# Altium schematic symbol library Res_BI_Technologies_P0915N-FC15BR100K_eec.SchLib: 1 symbol
Pins are listed as number, name and electrical type; pins without a type are passive.

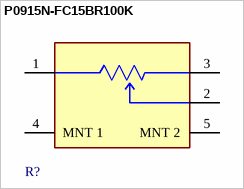
[diagram p0: symbol P0915N-FC15BR100K]

## P0915N-FC15BR100K
designator R?  (value not drawn)
footprint BI_Technologies_0_MFG
pins: 1, 2, 3, 4 MNT 1, 5 MNT 2